# EAGLE library part BGA2874 (library nxp_60)
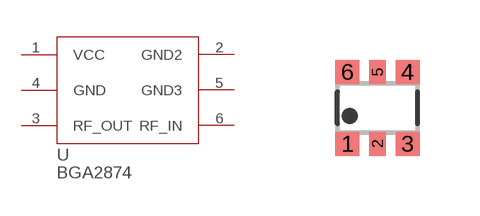
[diagram p132: symbol with the pads of SOT363; footprint SOT363]

Designator prefix U

## BGA2874  [SOT363]
1  VCC  sup
2  GND2  sup
3  RF_OUT  out
4  GND  sup
5  GND3  sup
6  RF_IN  in

## Footprint SOT363 (pad centres in mm)
SOT363 Plastic surface-mounted package; 6 leads JEDEC: -- IEC: -- JEITA: SC-88
smd 0.6 x 0.6: 1 -0.75,-0.9; 3 0.75,-0.9; 4 0.75,0.9; 6 -0.75,0.9
smd 0.4 x 0.6: 2 0,-0.9; 5 0,0.9